# EAGLE library part LD39200PU33R (library sjg-pixl)
LDO Voltage Regulators 2 A high PSRR ultra low drop linear regulator with reverse current protection Source: Datasheet <https://www.st.com/resource/en/datasheet/ld39200.pdf>
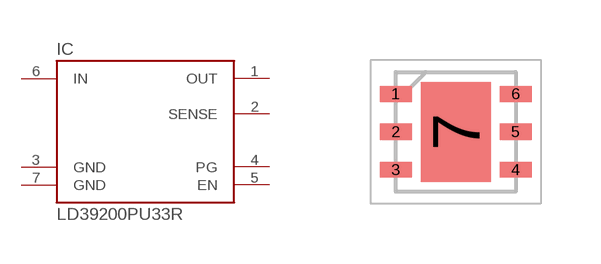
[diagram p11: symbol with the pads of SON95P300X300X100-7N; footprint SON95P300X300X100-7N]

Designator prefix IC

## LD39200PU33R (ARROW_PART_NUMBER: LD39200PU33R; ARROW_PRICE-STOCK: https://www.arrow.com/en/products/ld39200pu33r/stmicroelectronics; DESCRIPTION: LDO Voltage Regulators 2 A high PSRR ultra low drop linear regulator with reverse current protection; HEIGHT: 1mm; MANUFACTURER_NAME: STMicroelectronics; MANUFACTURER_PART_NUMBER: LD39200PU33R; MOUSER_PART_NUMBER: 511-LD39200PU33R; MOUSER_PRICE-STOCK: https://www.mouser.co.uk/ProductDetail/STMicroelectronics/LD39200PU33R?qs=WHlX%252B%252B9%2FRwAl6%2FJDqRS1uw%3D%3D)  [SON95P300X300X100-7N]
1  OUT
2  SENSE
3  GND
4  PG
5  EN
6  IN
7  GND

## Footprint SON95P300X300X100-7N (pad centres in mm)
DFN6 (3x3)
smd 0.8 x 0.4: 1 -1.5,0.95; 2 -1.5,0; 3 -1.5,-0.95; 4 1.5,-0.95; 5 1.5,0; 6 1.5,0.95
smd 1.75 x 2.5: 7 0,0